# EAGLE library part GFSH89M3H (library con-positronic)
MALE CONNECTOR Goldfish Series
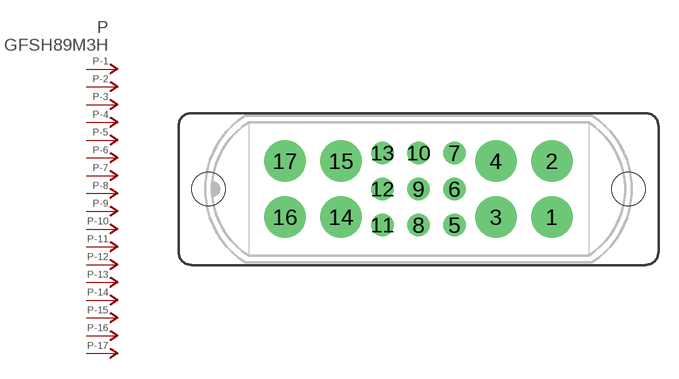
[diagram p1: symbol with the pads of GFSH89F4B; footprint GFSH89F4B]

Designator prefix P; gates -1=P-NV -2=P-N -3=P-N -4=P-N -5=P-N -6=P-N -7=P-N -8=P-N -9=P-N -10=P-N -11=P-N -12=P-N -13=P-N -14=P-N -15=P-N -16=P-N -17=P-N

## GFSH89M3H  [GFSH89F4B]
1  -1:P  pas
2  -2:P  pas
3  -3:P  pas
4  -4:P  pas
5  -5:P  pas
6  -6:P  pas
7  -7:P  pas
8  -8:P  pas
9  -9:P  pas
10  -10:P  pas
11  -11:P  pas
12  -12:P  pas
13  -13:P  pas
14  -14:P  pas
15  -15:P  pas
16  -16:P  pas
17  -17:P  pas

## Footprint GFSH89F4B (pad centres in mm)
GFSH89X3H Goldfish Series Vertical PCB Mount
drill 2.108: 1 10,-2.1; 2 10,2.1; 3 5.8,-2.1; 4 5.8,2.1; 14 -5.8,-2.1; 15 -5.8,2.1; 16 -10,-2.1; 17 -10,2.1
drill 1.143: 5 2.7,-2.7; 6 2.7,0; 7 2.7,2.7; 8 0,-2.7; 9 0,0; 10 0,2.7; 11 -2.7,-2.7; 12 -2.7,0; 13 -2.7,2.7
hole 2.54 at -15.748,0
hole 2.54 at 15.748,0